# Altium footprint library Prosthetic_Arm_pcb_lib.PcbLib: 4 footprints
Each footprint in its own frame and in the unit in brackets; x right, y up, seen from the top. Pads: shape width x height; smd on the part's side, far side on the other; paste and mask are expansions set on the pad; w line width, h text height; cw(c..) or ccw(c..) is an arc to the next point about the centre after c.
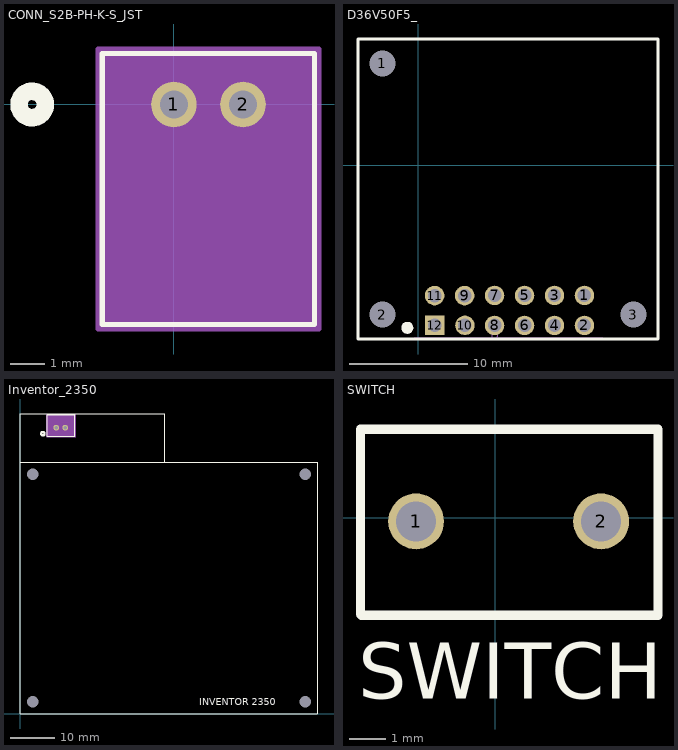
[diagram p0: the footprints below, top view; thin cyan lines are the x and y axes]

## CONN_S2B-PH-K-S_JST [mil]
pads (2):
  round 52 hole 32 paste-99999 mask+0: 1(0,0) 2(78.74,0)
Top Overlay:
  circle w20: c-161.63,0 r15
  lines w6: -81.63,-250.85 160.37,-250.85 160.37,58.15 -81.63,58.15 -81.63,-250.85
Bottom Overlay:
  circle w20: c-161.63,0 r15
Mechanical 13:
  circle w20: c0,0 r15
  lines w1: -76.63,-245.85 155.37,-245.85 155.37,53.15 -76.63,53.15 -76.63,-245.85
Mechanical 15:
  region: 165.37,63.15 -86.63,63.15 -86.63,-255.85 165.37,-255.85
  lines w6: -86.63,-255.85 -86.63,63.15 165.37,63.15 165.37,-255.85 -86.63,-255.85
3D body "S2B-PH-K-S.STEP": height 188.98, standoff -133.19, extent -75.79,-240.16 156.5,59.06

## D36V50F5_ [mil]
pads (15):
  round 60 hole 85.83: 1(-119.09,339.57) 2(-119.09,-498.03) 3(718.5,-498.03)
  round 65 / inner round 60 / far side round 65 hole 45 paste-99999 mask+0: 1(554.92,-434.45) 2(554.92,-534.45) 3(454.92,-434.45) 4(454.92,-534.45) 5(354.92,-434.45) 6(354.92,-534.45) 7(254.92,-434.45) 8(254.92,-534.45) 9(155,-435) 10(156,-534) 11(55,-435)
  rect 65x65 / inner round 60 / far side rect 65x65 hole 45 paste-99999 mask+0: 12(56,-534)
Top Overlay:
  circle w20: c-36.42,-542.32 r10
  lines w10: -200.79,420.28 -200.79,-579.72 800.2,-579.72 ; -200.79,421.26 800.28,421.26 800.28,-579.72
Mechanical 13:
  circle w0: c254.92,-569.45 r10
Mechanical 15:
  lines w6: -13,-577.76 614.92,-577.76
3D body "d36v50fx-step-down-voltage-regulator.step": height 132.87, standoff -240.16, extent -200.79,-576.77 799.21,423.23

## Inventor_2350 [mm]
pads (6):
  round 1.27 hole 0.762 paste-2539.97 mask+0: 1(7.94,63.658) 2(9.94,63.658)
  round 1.524 hole 2.5 unplated: 3(2.7,53.3) 4(2.7,2.7) 5(63.3,2.7) 6(63.3,53.3)
Top Overlay:
  circle w0.508: c4.975,62.325 r0.381
  lines w0.152: 5.962,66.465 5.962,61.715 12.108,61.715 12.108,66.465 ; 5.962,66.49 12.108,66.49
  lines w0.254: 32.1,56.1 32.1,66.7 0,66.7 0,56 ; 66,0 0,0 0,56 ; 66,56 49.5,56 16.5,56 0,56 ; 66.04,0.04 66.04,55.96
  text "INVENTOR 2350" at 39.779,1.929 h1.52
Mechanical 13:
  circle w0.508: c9.94,63.658 r0.381
  lines w0.025: 5.994,65.358 11.886,65.358
Mechanical 15:
  region: 5.8,61.65 12.2,61.65 12.2,66.654 5.8,66.654
  lines w0.152: 5.86,61.663 12.26,61.663 12.26,66.667 5.86,66.667 5.86,61.663
3D body "B2B-PH-K-S.STEP": height 6, standoff -3.4, extent 6,61.975 11.9,66.475

## SWITCH [mil]
pads (2):
  round 60 hole 42.91: 1(-85,-4) 2(114,-4)
Top Overlay:
  lines w10: -144.8,-103.92 -144.8,95.08 175.2,95.08 175.2,-104.92 -143.8,-104.92
  text "SWITCH" at -147.48,-194.72 h60
3D body "141_200MSPxT1B1M5xE.stp": height 927.25, standoff -592.13, extent -144.29,-117.12 175.79,118.69